# Altium footprint library LGA.PcbLib: 4 footprints
Each footprint in its own frame and in the unit in brackets; x right, y up, seen from the top. Pads: shape width x height; smd on the part's side, far side on the other; paste and mask are expansions set on the pad; w line width, h text height; cw(c..) or ccw(c..) is an arc to the next point about the centre after c.
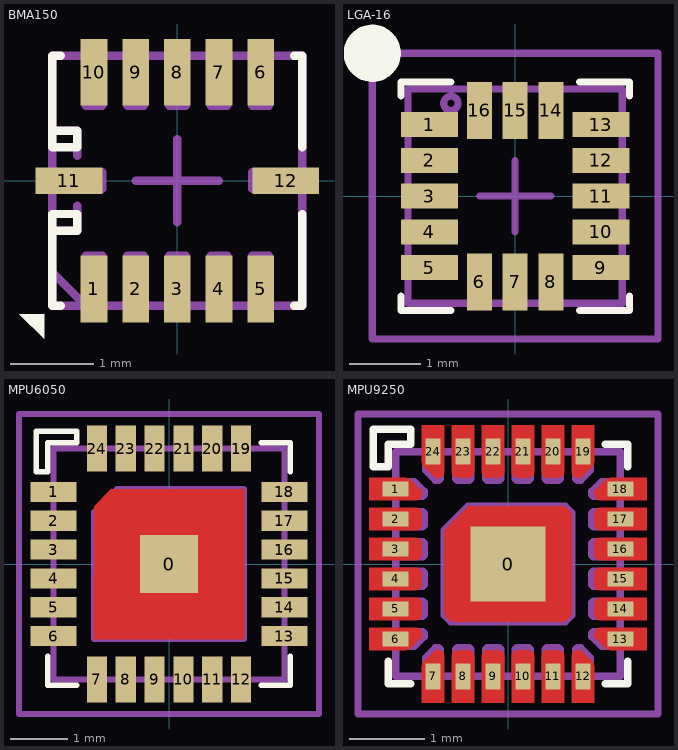
[diagram p0: the footprints below, top view; thin cyan lines are the x and y axes]

## BMA150 [mm] "LGA package 3x3x0.9mm"
height 0.9
pads (12):
  rect 0.32x0.8 smd: 1(-1,-1.3) 2(-0.5,-1.3) 3(0,-1.3) 4(0.5,-1.3) 5(1,-1.3) 6(1,1.3) 7(0.5,1.3) 8(0,1.3) 9(-0.5,1.3) 10(-1,1.3)
  rect 0.8x0.32 smd: 11(-1.3,0) 12(1.3,0)
Top Overlay:
  region: -1.9,-1.6 -1.6,-1.6 -1.6,-1.9
  lines w0.1: -1.5,-0.6 -1.2,-0.6 -1.2,-0.4 -1.5,-0.4 -1.5,-1.5 -1.4,-1.5 ; -1.5,0.6 -1.2,0.6 -1.2,0.4 -1.5,0.4 -1.5,1.5 -1.4,1.5 ; 1.4,-1.5 1.5,-1.5 1.5,-0.4 ; 1.4,1.5 1.5,1.5 1.5,0.4
Top Package:
  lines w0.1: -1.5,-1.1 -1.1,-1.5 ; -1.5,-0.6 -1.2,-0.6 -1.2,-0.3 ; -1.5,0.6 -1.2,0.6 -1.2,0.3 ; -1.5,-1.5 -1.5,1.5 1.5,1.5 1.5,-1.5 -1.5,-1.5 ; -1.3,-0.1 -1.3,0.1 -0.9,0.1 -0.9,-0.1 -1.3,-0.1 ; -1.1,-1.3 -1.1,-0.9 -0.9,-0.9 -0.9,-1.3 -1.1,-1.3 ; -1.1,0.9 -1.1,1.3 -0.9,1.3 -0.9,0.9 -1.1,0.9 ; -0.6,-1.3 -0.6,-0.9 -0.4,-0.9 -0.4,-1.3 -0.6,-1.3 ; -0.6,0.9 -0.6,1.3 -0.4,1.3 -0.4,0.9 -0.6,0.9 ; -0.1,-1.3 0.1,-1.3 0.1,-0.9 -0.1,-0.9 -0.1,-1.3 ; -0.1,0.9 0.1,0.9 0.1,1.3 -0.1,1.3 -0.1,0.9 ; 0.4,-1.3 0.4,-0.9 0.6,-0.9 0.6,-1.3 0.4,-1.3 ; 0.4,0.9 0.4,1.3 0.6,1.3 0.6,0.9 0.4,0.9 ; 0.9,-1.3 0.9,-0.9 1.1,-0.9 1.1,-1.3 0.9,-1.3 ; 0.9,-0.1 0.9,0.1 1.3,0.1 1.3,-0.1 0.9,-0.1 ; 0.9,0.9 0.9,1.3 1.1,1.3 1.1,0.9 0.9,0.9
Top Border:
  lines w0.1: -0.5,0 0,0 ; 0,-0.5 0,0 ; 0,0.5 0,0 ; 0.5,0 0,0 ; -1.5,-1.5 -1.5,1.5 1.5,1.5 1.5,-1.5 -1.5,-1.5
3D body "BMA150.stp": height 0.74, standoff 0.01, extent -1.5,-1.5 1.5,1.5

## LGA-16 [mm] "LGA package 3x3x0.9mm"
height 0.9
pads (16):
  rect 0.8x0.35 smd: 1(-1.2,1) 2(-1.2,0.5) 3(-1.2,0) 4(-1.2,-0.5) 5(-1.2,-1) 9(1.2,-1) 10(1.2,-0.5) 11(1.2,0) 12(1.2,0.5) 13(1.2,1)
  rect 0.35x0.8 smd: 6(-0.5,-1.2) 7(0,-1.2) 8(0.5,-1.2) 14(0.5,1.2) 15(0,1.2) 16(-0.5,1.2)
Top Overlay:
  circle w0.4: c-2,2 r0.2
  lines w0.1: -1.6,-1.4 -1.6,-1.6 -0.9,-1.6 ; -1.6,1.4 -1.6,1.6 -0.9,1.6 ; 0.9,-1.6 1.6,-1.6 1.6,-1.4 ; 0.9,1.6 1.6,1.6 1.6,1.4
Top Package:
  circle w0.1: c-0.9,1.3 r0.1
  lines w0.1: -1.5,-1.5 1.5,-1.5 1.5,1.5 -1.5,1.5 -1.5,-1.5 ; -1.375,-1.1 -1.375,-0.9 -1.075,-0.9 -1.075,-1.1 -1.375,-1.1 ; -1.375,-0.6 -1.375,-0.4 -1.075,-0.4 -1.075,-0.6 -1.375,-0.6 ; -1.375,-0.1 -1.375,0.1 -1.075,0.1 -1.075,-0.1 -1.375,-0.1 ; -1.375,0.4 -1.375,0.6 -1.075,0.6 -1.075,0.4 -1.375,0.4 ; -1.375,0.9 -1.075,0.9 -1.075,1.1 -1.375,1.1 -1.375,0.9 ; -0.6,-1.375 -0.4,-1.375 -0.4,-1.075 -0.6,-1.075 -0.6,-1.375 ; -0.6,1.075 -0.6,1.375 -0.4,1.375 -0.4,1.075 -0.6,1.075 ; -0.1,-1.375 0.1,-1.375 0.1,-1.075 -0.1,-1.075 -0.1,-1.375 ; -0.1,1.075 -0.1,1.375 0.1,1.375 0.1,1.075 -0.1,1.075 ; 0.4,-1.375 0.6,-1.375 0.6,-1.075 0.4,-1.075 0.4,-1.375 ; 0.4,1.075 0.4,1.375 0.6,1.375 0.6,1.075 0.4,1.075 ; 1.075,-1.1 1.075,-0.9 1.375,-0.9 1.375,-1.1 1.075,-1.1 ; 1.075,-0.6 1.375,-0.6 1.375,-0.4 1.075,-0.4 1.075,-0.6 ; 1.075,-0.1 1.375,-0.1 1.375,0.1 1.075,0.1 1.075,-0.1 ; 1.075,0.4 1.375,0.4 1.375,0.6 1.075,0.6 1.075,0.4 ; 1.075,0.9 1.375,0.9 1.375,1.1 1.075,1.1 1.075,0.9
Top Border:
  lines w0.1: -0.5,0 0,0 ; 0,-0.5 0,0 ; 0,0.5 0,0 ; 0.5,0 0,0 ; -2,-2 2,-2 2,2 -2,2 -2,-2
3D body "LGA-16.stp": height 1.03, standoff 0, extent -1.5,-1.5 1.5,1.5

## MPU6050 [mm] "LGA package 4x4x0.9mm"
height 0.9
pads (25):
  rect 1x1 smd paste-2: 0(0,0)
  rect 0.8x0.35 smd: 1(-2,1.25) 2(-2,0.75) 3(-2,0.25) 4(-2,-0.25) 5(-2,-0.75) 6(-2,-1.25) 13(2,-1.25) 14(2,-0.75) 15(2,-0.25) 16(2,0.25) 17(2,0.75) 18(2,1.25)
  rect 0.35x0.8 smd: 7(-1.25,-2) 8(-0.75,-2) 9(-0.25,-2) 10(0.25,-2) 11(0.75,-2) 12(1.25,-2) 19(1.25,2) 20(0.75,2) 21(0.25,2) 22(-0.25,2) 23(-0.75,2) 24(-1.25,2)
Top Layer:
  region: 1.3,1.3 -1,1.3 -1.3,1 -1.3,-1.3 1.3,-1.3
Top Overlay:
  lines w0.1: -2.1,-1.6 -2.1,-2.1 -1.6,-2.1 ; 1.6,-2.1 2.1,-2.1 2.1,-1.6 ; 1.6,2.1 2.1,2.1 2.1,1.6 ; -2.3,1.6 -2.3,2.3 -1.6,2.3 -1.6,2.1 -2.1,2.1 -2.1,1.6 -2.3,1.6
Top Package:
  lines w0.1: -2,-1.35 -1.75,-1.35 -1.7,-1.3 -1.7,-1.15 -2,-1.15 ; -2,-0.85 -1.7,-0.85 -1.7,-0.65 -2,-0.65 ; -2,-0.35 -1.7,-0.35 -1.7,-0.15 -2,-0.15 ; -2,0.15 -1.7,0.15 -1.7,0.35 -2,0.35 ; -2,0.65 -1.7,0.65 -1.7,0.85 -2,0.85 ; -2,1.15 -1.7,1.15 -1.7,1.3 -1.75,1.35 -2,1.35 ; -1.35,-2 -1.35,-1.75 -1.3,-1.7 -1.15,-1.7 -1.15,-2 ; -1.35,2 -1.35,1.75 -1.3,1.7 -1.15,1.7 -1.15,2 ; -0.85,-2 -0.85,-1.7 -0.65,-1.7 -0.65,-2 ; -0.85,2 -0.85,1.7 -0.65,1.7 -0.65,2 ; -0.35,-2 -0.35,-1.7 -0.15,-1.7 -0.15,-2 ; -0.35,2 -0.35,1.7 -0.15,1.7 -0.15,2 ; 0.15,-2 0.15,-1.7 0.35,-1.7 0.35,-2 ; 0.15,2 0.15,1.7 0.35,1.7 0.35,2 ; 0.65,-2 0.65,-1.7 0.85,-1.7 0.85,-2 ; 0.65,2 0.65,1.7 0.85,1.7 0.85,2 ; 1.15,-2 1.15,-1.7 1.3,-1.7 1.35,-1.75 1.35,-2 ; 1.15,2 1.15,1.7 1.3,1.7 1.35,1.75 1.35,2 ; 2,-1.35 1.75,-1.35 1.7,-1.3 1.7,-1.15 2,-1.15 ; 2,-0.85 1.7,-0.85 1.7,-0.65 2,-0.65 ; 2,-0.35 1.7,-0.35 1.7,-0.15 2,-0.15 ; 2,0.15 1.7,0.15 1.7,0.35 2,0.35 ; 2,0.65 1.7,0.65 1.7,0.85 2,0.85 ; 2,1.15 1.7,1.15 1.7,1.3 1.75,1.35 2,1.35 ; -2,-2 2,-2 2,2 -2,2 -2,-2 ; -1.3,-1.3 1.3,-1.3 1.3,1.3 -0.9,1.3 -1.3,0.9 -1.3,-1.3
Top Border:
  lines w0.1: -0.5,0 0,0 ; 0,-0.5 0,0 ; 0,0.5 0,0 ; 0.5,0 0,0 ; -2.6,-2.6 -2.6,2.6 2.6,2.6 2.6,-2.6 -2.6,-2.6
3D body "MPU6050.step": height 0.88, standoff -0.02, extent -2.02,-2.02 2.02,2.02

## MPU9250 [mm] "LGA package 3x3x1mm"
height 1
pads (25):
  rect 1x1 smd paste-1: 0(0,0)
  rect 0.35x0.2 smd: 1(-1.5,1) 2(-1.5,0.6) 3(-1.5,0.2) 4(-1.5,-0.2) 5(-1.5,-0.6) 6(-1.5,-1) 13(1.5,-1) 14(1.5,-0.6) 15(1.5,-0.2) 16(1.5,0.2) 17(1.5,0.6) 18(1.5,1)
  rect 0.2x0.35 smd: 7(-1,-1.5) 8(-0.6,-1.5) 9(-0.2,-1.5) 10(0.2,-1.5) 11(0.6,-1.5) 12(1,-1.5) 19(1,1.5) 20(0.6,1.5) 21(0.2,1.5) 22(-0.2,1.5) 23(-0.6,1.5) 24(-1,1.5)
Top Layer:
  region: 0.45,-1.85 0.45,-1.225 0.45,-1.21 0.461,-1.182 0.482,-1.161 0.51,-1.15 0.525,-1.15 0.675,-1.15 0.69,-1.15 0.718,-1.162 0.739,-1.183 0.75,-1.21 0.75,-1.225 0.75,-1.85
  region: 0.05,-1.85 0.05,-1.225 0.05,-1.21 0.061,-1.182 0.082,-1.161 0.11,-1.15 0.125,-1.15 0.275,-1.15 0.29,-1.15 0.318,-1.162 0.339,-1.183 0.35,-1.21 0.35,-1.225 0.35,-1.85
  region: -0.35,-1.85 -0.35,-1.225 -0.35,-1.21 -0.339,-1.182 -0.318,-1.161 -0.29,-1.15 -0.275,-1.15 -0.125,-1.15 -0.11,-1.15 -0.082,-1.162 -0.061,-1.183 -0.05,-1.21 -0.05,-1.225 -0.05,-1.85
  region: -0.75,-1.85 -0.75,-1.225 -0.75,-1.21 -0.739,-1.182 -0.718,-1.161 -0.69,-1.15 -0.675,-1.15 -0.525,-1.15 -0.51,-1.15 -0.482,-1.162 -0.461,-1.183 -0.45,-1.21 -0.45,-1.225 -0.45,-1.85
  region: -0.45,1.85 -0.45,1.225 -0.45,1.21 -0.461,1.182 -0.482,1.161 -0.51,1.15 -0.525,1.15 -0.675,1.15 -0.69,1.15 -0.718,1.162 -0.739,1.183 -0.75,1.21 -0.75,1.225 -0.75,1.85
  region: -0.05,1.85 -0.05,1.225 -0.05,1.21 -0.061,1.182 -0.082,1.161 -0.11,1.15 -0.125,1.15 -0.275,1.15 -0.29,1.15 -0.318,1.162 -0.339,1.183 -0.35,1.21 -0.35,1.225 -0.35,1.85
  region: 0.35,1.85 0.35,1.225 0.35,1.21 0.339,1.182 0.318,1.161 0.29,1.15 0.275,1.15 0.125,1.15 0.11,1.15 0.082,1.162 0.061,1.183 0.05,1.21 0.05,1.225 0.05,1.85
  region: 0.75,1.85 0.75,1.225 0.75,1.21 0.739,1.182 0.718,1.161 0.69,1.15 0.675,1.15 0.525,1.15 0.51,1.15 0.482,1.162 0.461,1.183 0.45,1.21 0.45,1.225 0.45,1.85
  region: 1.85,0.45 1.225,0.45 1.21,0.45 1.182,0.461 1.161,0.482 1.15,0.51 1.15,0.525 1.15,0.675 1.15,0.69 1.162,0.718 1.183,0.739 1.21,0.75 1.225,0.75 1.85,0.75
  region: 1.85,0.05 1.225,0.05 1.21,0.05 1.182,0.061 1.161,0.082 1.15,0.11 1.15,0.125 1.15,0.275 1.15,0.29 1.162,0.318 1.183,0.339 1.21,0.35 1.225,0.35 1.85,0.35
  region: 1.85,-0.35 1.225,-0.35 1.21,-0.35 1.182,-0.339 1.161,-0.318 1.15,-0.29 1.15,-0.275 1.15,-0.125 1.15,-0.11 1.162,-0.082 1.183,-0.061 1.21,-0.05 1.225,-0.05 1.85,-0.05
  region: 1.85,-0.75 1.225,-0.75 1.21,-0.75 1.182,-0.739 1.161,-0.718 1.15,-0.69 1.15,-0.675 1.15,-0.525 1.15,-0.51 1.162,-0.482 1.183,-0.461 1.21,-0.45 1.225,-0.45 1.85,-0.45
  region: -1.85,-0.75 -1.225,-0.75 -1.21,-0.75 -1.182,-0.739 -1.161,-0.718 -1.15,-0.69 -1.15,-0.675 -1.15,-0.525 -1.15,-0.51 -1.162,-0.482 -1.183,-0.461 -1.21,-0.45 -1.225,-0.45 -1.85,-0.45
  region: -1.85,-0.35 -1.225,-0.35 -1.21,-0.35 -1.182,-0.339 -1.161,-0.318 -1.15,-0.29 -1.15,-0.275 -1.15,-0.125 -1.15,-0.11 -1.162,-0.082 -1.183,-0.061 -1.21,-0.05 -1.225,-0.05 -1.85,-0.05
  region: -1.85,0.05 -1.225,0.05 -1.21,0.05 -1.182,0.061 -1.161,0.082 -1.15,0.11 -1.15,0.125 -1.15,0.275 -1.15,0.29 -1.162,0.318 -1.183,0.339 -1.21,0.35 -1.225,0.35 -1.85,0.35
  region: -0.85,-1.85 -1.15,-1.85 -1.15,-1.375 -1.15,-1.363 -1.145,-1.34 -1.136,-1.318 -1.123,-1.299 -1.115,-1.29 -1,-1.175 -0.994,-1.169 -0.98,-1.16 -0.965,-1.153 -0.948,-1.15 -0.94,-1.15 -0.925,-1.15 -0.91,-1.15 -0.883,-1.161 -0.861,-1.182 -0.85,-1.21 -0.85,-1.225
  region: 0.85,1.85 1.15,1.85 1.15,1.375 1.15,1.363 1.145,1.34 1.136,1.318 1.123,1.299 1.115,1.29 1,1.175 0.994,1.169 0.98,1.16 0.965,1.153 0.948,1.15 0.94,1.15 0.925,1.15 0.91,1.15 0.883,1.161 0.861,1.182 0.85,1.21 0.85,1.225
  region: 1.85,-0.85 1.85,-1.15 1.375,-1.15 1.363,-1.15 1.34,-1.145 1.318,-1.136 1.299,-1.123 1.29,-1.115 1.175,-1 1.169,-0.994 1.16,-0.98 1.153,-0.965 1.15,-0.948 1.15,-0.94 1.15,-0.925 1.15,-0.91 1.161,-0.883 1.182,-0.861 1.21,-0.85 1.225,-0.85
  region: 0.85,-1.85 1.15,-1.85 1.15,-1.375 1.15,-1.363 1.145,-1.34 1.136,-1.318 1.123,-1.299 1.115,-1.29 1,-1.175 0.994,-1.169 0.98,-1.16 0.965,-1.153 0.948,-1.15 0.94,-1.15 0.925,-1.15 0.91,-1.15 0.883,-1.161 0.861,-1.182 0.85,-1.21 0.85,-1.225
  region: -1.85,-0.85 -1.85,-1.15 -1.375,-1.15 -1.363,-1.15 -1.34,-1.145 -1.318,-1.136 -1.299,-1.123 -1.29,-1.115 -1.175,-1 -1.169,-0.994 -1.16,-0.98 -1.153,-0.965 -1.15,-0.948 -1.15,-0.94 -1.15,-0.925 -1.15,-0.91 -1.161,-0.883 -1.182,-0.861 -1.21,-0.85 -1.225,-0.85
  region: -0.85,1.85 -1.15,1.85 -1.15,1.375 -1.15,1.363 -1.145,1.34 -1.136,1.318 -1.123,1.299 -1.115,1.29 -1,1.175 -0.994,1.169 -0.98,1.16 -0.965,1.153 -0.948,1.15 -0.94,1.15 -0.925,1.15 -0.91,1.15 -0.883,1.161 -0.861,1.182 -0.85,1.21 -0.85,1.225
  region: 1.85,0.85 1.85,1.15 1.375,1.15 1.363,1.15 1.34,1.145 1.318,1.136 1.299,1.123 1.29,1.115 1.175,1 1.169,0.994 1.16,0.98 1.153,0.965 1.15,0.948 1.15,0.94 1.15,0.925 1.15,0.91 1.161,0.883 1.182,0.861 1.21,0.85 1.225,0.85
  region: -1.85,0.85 -1.85,1.15 -1.375,1.15 -1.363,1.15 -1.34,1.145 -1.318,1.136 -1.299,1.123 -1.29,1.115 -1.175,1 -1.169,0.994 -1.16,0.98 -1.153,0.965 -1.15,0.948 -1.15,0.94 -1.15,0.925 -1.15,0.91 -1.161,0.883 -1.182,0.861 -1.21,0.85 -1.225,0.85
  region: -1.85,0.45 -1.225,0.45 -1.21,0.45 -1.182,0.461 -1.161,0.482 -1.15,0.51 -1.15,0.525 -1.15,0.675 -1.15,0.69 -1.162,0.718 -1.183,0.739 -1.21,0.75 -1.225,0.75 -1.85,0.75
  region: -0.53,0.77 0.7,0.77 0.73,0.77 0.785,0.747 0.827,0.705 0.85,0.65 0.85,0.62 0.85,-0.62 0.85,-0.65 0.827,-0.705 0.785,-0.747 0.73,-0.77 0.7,-0.77 -0.7,-0.77 -0.73,-0.77 -0.785,-0.747 -0.827,-0.705 -0.85,-0.65 -0.85,-0.62 -0.85,0.45
Top Overlay:
  lines w0.1: -1.6,-1.3 -1.6,-1.6 -1.3,-1.6 ; 1.3,-1.6 1.6,-1.6 1.6,-1.3 ; 1.3,1.6 1.6,1.6 1.6,1.3 ; -1.8,1.3 -1.8,1.8 -1.3,1.8 -1.3,1.6 -1.6,1.6 -1.6,1.3 -1.8,1.3
Top Package:
  lines w0.1: -1.5,-1.1 -1.25,-1.1 -1.12,-0.97 -1.12,-0.92 -1.14,-0.9 -1.5,-0.9 ; -1.5,-0.7 -1.14,-0.7 -1.12,-0.68 -1.12,-0.52 -1.14,-0.5 -1.5,-0.5 ; -1.5,-0.3 -1.14,-0.3 -1.12,-0.28 -1.12,-0.12 -1.14,-0.1 -1.5,-0.1 ; -1.5,0.1 -1.14,0.1 -1.12,0.12 -1.12,0.28 -1.14,0.3 -1.5,0.3 ; -1.5,0.5 -1.14,0.5 -1.12,0.52 -1.12,0.68 -1.14,0.7 -1.5,0.7 ; -1.5,0.9 -1.14,0.9 -1.12,0.92 -1.12,0.97 -1.25,1.1 -1.5,1.1 ; -1.1,-1.5 -1.1,-1.25 -0.97,-1.12 -0.92,-1.12 -0.9,-1.14 -0.9,-1.5 ; -1.1,1.5 -1.1,1.25 -0.97,1.12 -0.92,1.12 -0.9,1.14 -0.9,1.5 ; -0.7,-1.5 -0.7,-1.14 -0.68,-1.12 -0.52,-1.12 -0.5,-1.14 -0.5,-1.5 ; -0.7,1.5 -0.7,1.14 -0.68,1.12 -0.52,1.12 -0.5,1.14 -0.5,1.5 ; -0.3,-1.5 -0.3,-1.14 -0.28,-1.12 -0.12,-1.12 -0.1,-1.14 -0.1,-1.5 ; -0.3,1.5 -0.3,1.14 -0.28,1.12 -0.12,1.12 -0.1,1.14 -0.1,1.5 ; 0.1,-1.5 0.1,-1.14 0.12,-1.12 0.28,-1.12 0.3,-1.14 0.3,-1.5 ; 0.1,1.5 0.1,1.14 0.12,1.12 0.28,1.12 0.3,1.14 0.3,1.5 ; 0.5,-1.5 0.5,-1.14 0.52,-1.12 0.68,-1.12 0.7,-1.14 0.7,-1.5 ; 0.5,1.5 0.5,1.14 0.52,1.12 0.68,1.12 0.7,1.14 0.7,1.5 ; 0.9,-1.5 0.9,-1.14 0.92,-1.12 0.97,-1.12 1.1,-1.25 1.1,-1.5 ; 0.9,1.5 0.9,1.14 0.92,1.12 0.97,1.12 1.1,1.25 1.1,1.5 ; 1.5,-1.1 1.25,-1.1 1.12,-0.97 1.12,-0.92 1.14,-0.9 1.5,-0.9 ; 1.5,-0.7 1.14,-0.7 1.12,-0.68 1.12,-0.52 1.14,-0.5 1.5,-0.5 ; 1.5,-0.3 1.14,-0.3 1.12,-0.28 1.12,-0.12 1.14,-0.1 1.5,-0.1 ; 1.5,0.1 1.14,0.1 1.12,0.12 1.12,0.28 1.14,0.3 1.5,0.3 ; 1.5,0.5 1.14,0.5 1.12,0.52 1.12,0.68 1.14,0.7 1.5,0.7 ; 1.5,0.9 1.14,0.9 1.12,0.92 1.12,0.97 1.25,1.1 1.5,1.1 ; -1.5,-1.5 -1.5,1.5 1.5,1.5 1.5,-1.5 -1.5,-1.5 ; -0.85,-0.68 -0.85,0.45 -0.53,0.77 0.76,0.77 0.85,0.68 0.85,-0.68 0.76,-0.77 -0.76,-0.77 -0.85,-0.68
Top Border:
  lines w0.1: -0.5,0 0,0 ; 0,-0.5 0,0 ; 0,0.5 0,0 ; 0.5,0 0,0 ; -2,-2 2,-2 2,2 -2,2 -2,-2
3D body "MPU9250.step": height 1, standoff -0.05, extent -1.51,-1.51 1.51,1.51